# EAGLE library part TPS63036YFGR_TPS63036YFGR (library TG-Watch02B-rev04)
High Efficient Single Inductor Buck-Boost Converter with 1-A Switches 8-DSBGA -40 to 85 Check prices <https://pricing.snapeda.com/parts/TPS63036YFGR/Texas%20Instruments/view-part?ref=eda>
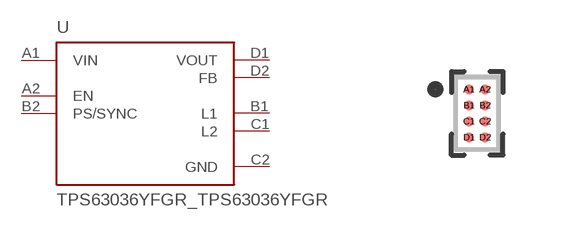
[diagram p7: symbol with the pads of TPS63036YFGR_BGA8N40P4X2_181X107X62N; footprint TPS63036YFGR_BGA8N40P4X2_181X107X62N]

Designator prefix U

## TPS63036YFGR_TPS63036YFGR (AVAILABILITY: Bad; DESCRIPTION: High Efficient Single Inductor Buck-Boost Converter with 1-A Switches 8-DSBGA -40 to 85; MF: Texas Instruments; MP: TPS63036YFGR; PACKAGE: DSBGA-8 Texas Instruments; PRICE: None; PURCHASE-URL: https://pricing.snapeda.com/search/part/TPS63036YFGR/?ref=eda)  [TPS63036YFGR_BGA8N40P4X2_181X107X62N]
A1  VIN  in
A2  EN  in
B1  L1  pas
B2  PS/SYNC  in
C1  L2  pas
C2  GND  pwr
D1  VOUT  out
D2  FB  in

## Footprint TPS63036YFGR_BGA8N40P4X2_181X107X62N (pad centres in mm)
smd 0.25 x 0.25: A1 -0.2,0.6; A2 0.2,0.6; B1 -0.2,0.2; B2 0.2,0.2; C1 -0.2,-0.2; C2 0.2,-0.2; D1 -0.2,-0.6; D2 0.2,-0.6